# Altium integrated library BAT46WJ.IntLib: 1 symbol
Pins are listed as number, name and electrical type; pins without a type are passive.

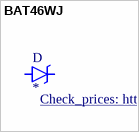
[diagram p0: symbol BAT46WJ]

## BAT46WJ
designator D
Diode Schottky 100V 250mA (DC) Surface Mount SOD-323F; MP: BAT46WJ; MF: NXP Semiconductors; SnapEDA_Link: https://www.snapeda.com/parts/BAT46WJ/NXP%20Semiconductors/view-part/4222338/?ref=snap; Package: SOD-323 NXP Semiconductors; Availability: Bad; Price: None; Value: *; Check_prices: https://www.snapeda.com/parts/BAT46WJ/NXP%20Semiconductors/view-part/4222338/?ref=eda
footprint SOD-323
pins: A, C